# EAGLE library part ATXMEGA32A (library Tft_lcd_header)
MICROCONTROLLER 2 Kbytes FLASH 128 bytes SRAM 128 bytes EEPROM UART 6-channel 10-bit ADC
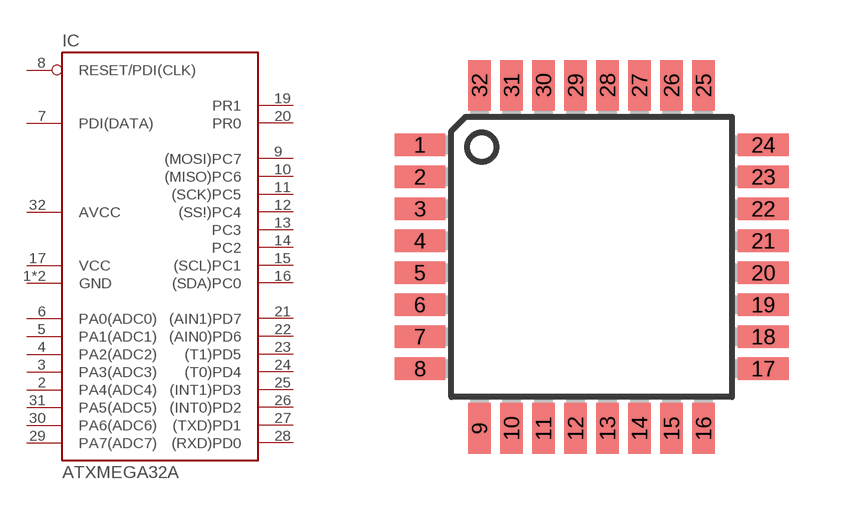
[diagram p1: symbol with the pads of TQFP32-08; footprint TQFP32-08]

Designator prefix IC

## ATXMEGA32AA (OC_FARNELL: unknown; OC_NEWARK: unknown)  [TQFP32-08]
1  GND  pwr
2  PA4(ADC4)
3  PA3(ADC3)
4  PA2(ADC2)
5  PA1(ADC1)
6  PA0(ADC0)
7  PDI(DATA)
8  RESET/PDI(CLK)  in
9  (MOSI)PC7
10  (MISO)PC6
11  (SCK)PC5
12  (SS!)PC4
13  PC3
14  PC2
15  (SCL)PC1
16  (SDA)PC0
17  VCC  pwr
18  GND  pwr
19  PR1
20  PR0
21  (AIN1)PD7
22  (AIN0)PD6
23  (T1)PD5
24  (T0)PD4
25  (INT1)PD3
26  (INT0)PD2
27  (TXD)PD1
28  (RXD)PD0
29  PA7(ADC7)
30  PA6(ADC6)
31  PA5(ADC5)
32  AVCC  pwr

## Footprint TQFP32-08 (pad centres in mm)
Thin Plasic Quad Flat Package Grid 0.8 mm
smd 1.27 x 0.559: 1 -4.293,2.8; 2 -4.293,2; 3 -4.293,1.2; 4 -4.293,0.4; 5 -4.293,-0.4; 6 -4.293,-1.2; 7 -4.293,-2; 8 -4.293,-2.8; 17 4.293,-2.8; 18 4.293,-2; 19 4.293,-1.2; 20 4.293,-0.4; 21 4.293,0.4; 22 4.293,1.2; 23 4.293,2; 24 4.293,2.8
smd 0.559 x 1.27: 9 -2.8,-4.293; 10 -2,-4.293; 11 -1.2,-4.293; 12 -0.4,-4.293; 13 0.4,-4.293; 14 1.2,-4.293; 15 2,-4.293; 16 2.8,-4.293; 25 2.8,4.293; 26 2,4.293; 27 1.2,4.293; 28 0.4,4.293; 29 -0.4,4.293; 30 -1.2,4.293; 31 -2,4.293; 32 -2.8,4.293